# Altium footprint library user_conector.PcbLib: 5 footprints
Each footprint in its own frame and in the unit in brackets; x right, y up, seen from the top. Pads: shape width x height; smd on the part's side, far side on the other; paste and mask are expansions set on the pad; w line width, h text height; cw(c..) or ccw(c..) is an arc to the next point about the centre after c.
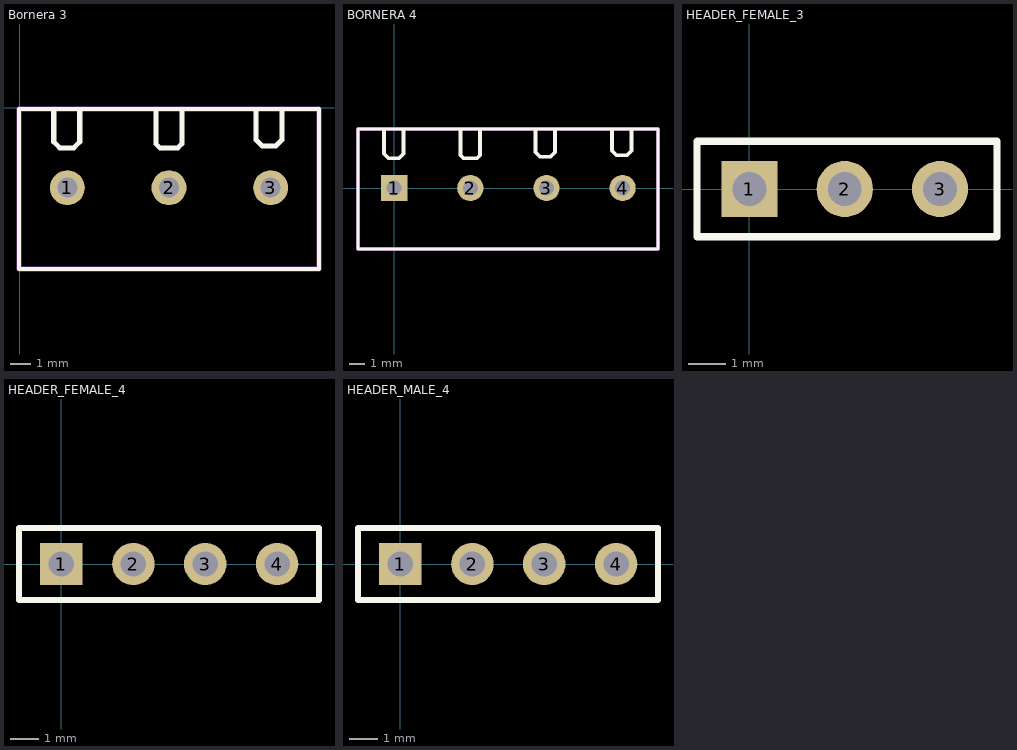
[diagram p0: the footprints below, top view; thin cyan lines are the x and y axes]

## Bornera 3 [mm]
pads (3):
  round 1.75 hole 1: 1(2.378,-3.991) 2(7.458,-3.991) 3(12.538,-3.991)
Top Overlay:
  lines w0.2: -0.035,-8.055 -0.035,-0.054 14.951,-0.054 14.951,-8.055 -0.035,-8.055
  lines w0.254: 1.7,-0.1 1.7,-1.7 2,-2 2.7,-2 3,-1.7 3,-0.1 ; 6.8,-0.1 6.8,-1.8 7,-2 7.9,-2 8.1,-1.8 8.1,-0.1 ; 11.8,-0.2 11.8,-1.6 12.1,-1.9 12.8,-1.9 13.1,-1.6 13.1,-0.2
Mechanical 1:
  lines w0.254: -0.035,-8.055 -0.035,-0.054 14.951,-0.054 14.951,-8.055 -0.035,-8.055
3D body "bornera de 3 terminales.step": height 10, standoff -4, extent -0.042,-7.991 14.958,0.009

## BORNERA 4 [mm]
pads (4):
  rect 1.75x1.75 hole 1: 1(0,0)
  round 1.75 hole 1: 2(5.08,0) 3(10.16,0) 4(15.24,0)
Top Overlay:
  lines w0.2: -2.413,-4.064 -2.413,3.937 17.6,3.937 17.6,-4.064 -2.413,-4.064
  lines w0.254: -0.678,3.891 -0.678,2.291 -0.378,1.991 0.322,1.991 0.622,2.291 0.622,3.891 ; 4.422,3.891 4.422,2.191 4.622,1.991 5.522,1.991 5.722,2.191 5.722,3.891 ; 9.422,3.791 9.422,2.391 9.722,2.091 10.422,2.091 10.722,2.391 10.722,3.791 ; 14.522,3.891 14.522,2.491 14.822,2.191 15.522,2.191 15.822,2.491 15.822,3.891
Mechanical 1:
  lines w0.254: -2.413,-4.064 -2.413,3.937 17.6,3.937 17.6,-4.064 -2.413,-4.064
3D body "bornera de 4 terminales.step": height 12, standoff -3, extent -2.4,-4.5 17.6,4.5

## HEADER_FEMALE_3 [mm]
pads (3):
  rect 1.5x1.5 hole 0.9: 1(0,0)
  round 1.5 hole 0.9: 2(2.54,0) 3(5.08,0)
Top Overlay:
  lines w0.2: -1.4,-1.27 -1.4,1.27 6.6,1.27 6.6,-1.27 -1.4,-1.27
3D body "3-Pin Header - Female - 2.54mm.step": height 5, standoff -3, extent -1.46,-1.3 6.66,1.2

## HEADER_FEMALE_4 [mm]
pads (4):
  rect 1.5x1.5 hole 0.9: 1(0,0)
  round 1.5 hole 0.9: 2(2.54,0) 3(5.08,0) 4(7.62,0)
Top Overlay:
  lines w0.2: -1.5,-1.27 9.1,-1.27 9.1,1.27 -1.5,1.27 -1.5,-1.27
3D body "4-Pin Header - Female - 2.54mm.step": height 5, standoff -3, extent -1.53,-1.2 9.13,1.3

## HEADER_MALE_4 [mm]
pads (4):
  rect 1.5x1.5 hole 0.9: 1(0,0)
  round 1.5 hole 0.9: 2(2.54,0) 3(5.08,0) 4(7.62,0)
Top Overlay:
  lines w0.2: -1.5,-1.27 -1.5,1.27 9.1,1.27 9.1,-1.27 -1.5,-1.27
3D body "4-Pin Header - Male - 2.54mm.step": height 8.89, standoff -3.05, extent -1.27,-1.27 8.89,1.27